# EAGLE library part LPC11C2X (library bytewerk-uc)
32bit Cortex M0 microcontroller - builtin CAN-Tranceiver
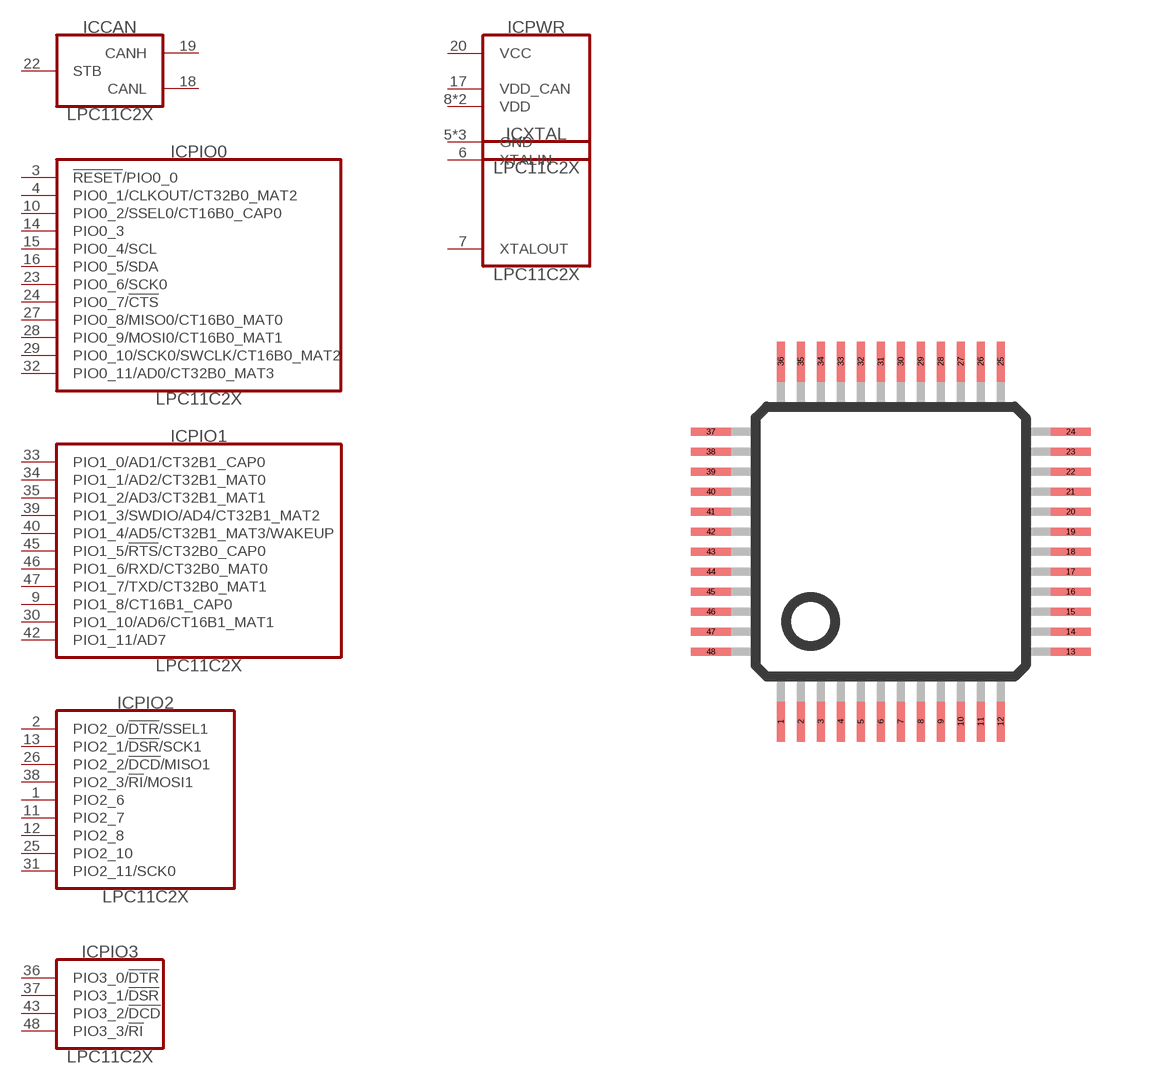
[diagram p9: symbol with the pads of TQFP48; footprint TQFP48]

Designator prefix IC; gates CAN=LPC11C2X-CAN PIO0=LPC11C2X-PIO0 PIO1=LPC11C2X-PIO1 PIO2=LPC11C2X-PIO2 PIO3=LPC11C2X-PIO3 PWR=LPC11C2X-PWR XTAL=LPC11C2X-XTAL

## LPC11C2X (MF: NXP; MPN: LPC11C22FBD48/301,; OC_MOUSER: 771-LPC11C22FBD4830)  [TQFP48]
1  PIO2:PIO2_6
2  PIO2:PIO2_0/!DTR!/SSEL1
3  PIO0:!RESET!/PIO0_0
4  PIO0:PIO0_1/CLKOUT/CT32B0_MAT2
5  PWR:GND  pwr
6  XTAL:XTALIN  in
7  XTAL:XTALOUT  out
8  PWR:VDD  pwr
9  PIO1:PIO1_8/CT16B1_CAP0
10  PIO0:PIO0_2/SSEL0/CT16B0_CAP0
11  PIO2:PIO2_7
12  PIO2:PIO2_8
13  PIO2:PIO2_1/!DSR!/SCK1
14  PIO0:PIO0_3
15  PIO0:PIO0_4/SCL
16  PIO0:PIO0_5/SDA
17  PWR:VDD_CAN  pwr
18  CAN:CANL  pas
19  CAN:CANH  pas
20  PWR:VCC  pwr
21  PWR:GND  pwr
22  CAN:STB  in
23  PIO0:PIO0_6/SCK0
24  PIO0:PIO0_7/!CTS!
25  PIO2:PIO2_10
26  PIO2:PIO2_2/!DCD!/MISO1
27  PIO0:PIO0_8/MISO0/CT16B0_MAT0
28  PIO0:PIO0_9/MOSI0/CT16B0_MAT1
29  PIO0:PIO0_10/SCK0/SWCLK/CT16B0_MAT2
30  PIO1:PIO1_10/AD6/CT16B1_MAT1
31  PIO2:PIO2_11/SCK0
32  PIO0:PIO0_11/AD0/CT32B0_MAT3
33  PIO1:PIO1_0/AD1/CT32B1_CAP0
34  PIO1:PIO1_1/AD2/CT32B1_MAT0
35  PIO1:PIO1_2/AD3/CT32B1_MAT1
36  PIO3:PIO3_0/!DTR!
37  PIO3:PIO3_1/!DSR!
38  PIO2:PIO2_3/!RI!/MOSI1
39  PIO1:PIO1_3/SWDIO/AD4/CT32B1_MAT2
40  PIO1:PIO1_4/AD5/CT32B1_MAT3/WAKEUP
41  PWR:GND  pwr
42  PIO1:PIO1_11/AD7
43  PIO3:PIO3_2/!DCD!
44  PWR:VDD  pwr
45  PIO1:PIO1_5/!RTS!/CT32B0_CAP0
46  PIO1:PIO1_6/RXD/CT32B0_MAT0
47  PIO1:PIO1_7/TXD/CT32B0_MAT1
48  PIO3:PIO3_3/!RI!

## Footprint TQFP48 (pad centres in mm)
smd 0.2 x 1: 1 -2.75,-4.5; 2 -2.25,-4.5; 3 -1.75,-4.5; 4 -1.25,-4.5; 5 -0.75,-4.5; 6 -0.25,-4.5; 7 0.25,-4.5; 8 0.75,-4.5; 9 1.25,-4.5; 10 1.75,-4.5; 11 2.25,-4.5; 12 2.75,-4.5; 25 2.75,4.5; 26 2.25,4.5; 27 1.75,4.5; 28 1.25,4.5; 29 0.75,4.5; 30 0.25,4.5; 31 -0.25,4.5; 32 -0.75,4.5; 33 -1.25,4.5; 34 -1.75,4.5; 35 -2.25,4.5; 36 -2.75,4.5
smd 1 x 0.2: 13 4.5,-2.75; 14 4.5,-2.25; 15 4.5,-1.75; 16 4.5,-1.25; 17 4.5,-0.75; 18 4.5,-0.25; 19 4.5,0.25; 20 4.5,0.75; 21 4.5,1.25; 22 4.5,1.75; 23 4.5,2.25; 24 4.5,2.75; 37 -4.5,2.75; 38 -4.5,2.25; 39 -4.5,1.75; 40 -4.5,1.25; 41 -4.5,0.75; 42 -4.5,0.25; 43 -4.5,-0.25; 44 -4.5,-0.75; 45 -4.5,-1.25; 46 -4.5,-1.75; 47 -4.5,-2.25; 48 -4.5,-2.75